# Altium footprint library ozge_er..PcbLib: 37 footprints (part 3 of 3)
Each footprint in its own frame and in the unit in brackets; x right, y up, seen from the top. Pads: shape width x height; smd on the part's side, far side on the other; paste and mask are expansions set on the pad; w line width, h text height; cw(c..) or ccw(c..) is an arc to the next point about the centre after c.
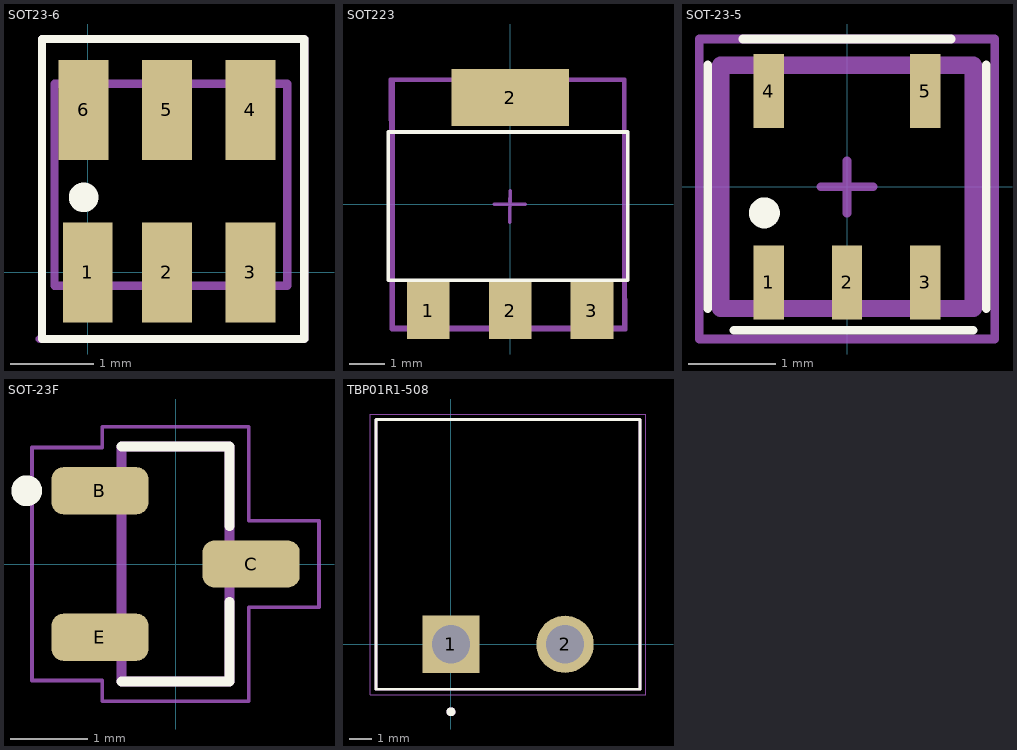
[diagram p2: the footprints below, top view; thin cyan lines are the x and y axes]

## SOT23-6 [mm] "diode"
pads (6):
  rect 0.6x1.2 smd: 1(0,0) 2(0.95,0) 3(1.95,0) 4(1.95,1.95) 5(0.95,1.95) 6(-0.05,1.95)
Top Overlay:
  circle w0.254: c-0.05,0.9 r0.05
  lines w0.1: -0.55,-0.8 -0.55,2.8 2.55,2.8 2.6,2.8 2.6,-0.8 -0.55,-0.8
Top 3D Body:
  lines w0.1: -0.4,-0.163 -0.4,2.263 2.394,2.263 2.394,-0.163 -0.4,-0.163
Top Component Center:
  lines w0.1: -0.575,-0.8 0.212,-0.8 1.787,-0.8 2.575,-0.8 ; -0.55,-0.75 -0.55,2.8 2.55,2.8 2.6,2.8 2.6,-0.75
Top Designator:
  lines w0.1: -0.55,-0.8 2.6,-0.8 2.6,2.8 -0.55,2.8 -0.55,-0.8
  text ".Designator" at -0.55,1 h1
3D body "User Library-SOT-23-6.step": height 1.09, standoff 0, extent -0.4,-0.163 2.394,2.263

## SOT223 [mm]
pads (4):
  rect 1.2x1.6 smd: 1(-2.305,-3) 2(0.005,-3) 3(2.305,-3)
  rect 3.3x1.6 smd: 2(0.005,3)
Top Overlay:
  lines w0.1: -3.435,-2.14 -3.435,2.03 3.175,2.03 3.315,2.03 3.315,-2.14 -3.435,-2.14
Top 3D Body:
  lines w0.1: -3.295,-3.47 -3.295,3.49 -1.67,3.49 1.58,3.49 3.205,3.49 3.205,-3.47 -3.295,-3.47
Top Component Center:
  lines w0.1: -0.44,-0.01 0.43,0 -0.005,0.005 -0.002,0.376 -0.01,-0.506 ; -3.344,-3.528 -3.344,3.51 3.22,3.51 3.232,3.51 3.232,-3.528 -3.344,-3.528
Top Designator:
  lines w0.1: -3.37,3.52 -3.34,-3.54 -1.69,-3.54 1.61,-3.54 3.26,-3.54 3.2,3.5 -3.37,3.52
  text ".Designator" at -3.15,0.07 h1.1
3D body "CircuitWorks-SOT-223.step": height 1.4, standoff -0.28, extent -3.295,-3.47 3.205,3.49

## SOT-23-5 [mm]
pads (5):
  rect 0.35x0.85 smd: 1(-0.9,-1.1) 2(0,-1.1) 3(0.9,-1.1) 4(-0.9,1.1) 5(0.9,1.1)
Top Overlay:
  circle w0.254: c-0.95,-0.3 r0.05
  lines w0.1: -1.6,-1.4 -1.6,1.4 ; -1.3,-1.65 1.45,-1.65 ; -1.2,1.7 1.2,1.7 ; 1.6,-1.4 1.6,1.4
Top 3D Body:
  lines w0.2: -1.45,-1.4 -1.45,1.4 1.45,1.4 1.45,-1.4 -1.45,-1.4
Top Component Center:
  lines w0.1: -0.3,0 0.3,0 ; 0,0 0,-0.3 0,0.3 ; -1.7,-1.75 -1.7,1.7 1.7,1.7 1.7,-1.55 1.7,-1.75 -1.7,-1.75
Top Designator:
  lines w0.1: -1.7,-1.75 1.7,-1.75 1.7,1.7 -1.7,1.7 -1.7,-1.75
  text ".Designator" at -1.45,-0.85 h1
3D body "OPA314AIDBVR.STEP": height 1.45, standoff 0, extent -1.45,-1.4 1.45,1.4

## SOT-23F [mm] "BJT"
pads (3):
  rrect50% 1.26x0.61 smd: B(-0.98,0.95) C(0.98,0) E(-0.98,-0.95)
Top Overlay:
  circle w0.2: c-1.93,0.95 r0.1
  lines w0.127: -0.7,-1.525 0.7,-1.525 0.7,-0.489 ; -0.7,1.525 0.7,1.525 0.7,0.489
Mechanical 13:
  lines w0.127: -0.7,-1.525 0.7,-1.525 0.7,1.525 -0.7,1.525 -0.7,-1.525
Mechanical 15:
  lines w0.05: -1.86,-1.51 -0.95,-1.51 -0.95,-1.78 0.95,-1.78 0.95,-0.56 1.86,-0.56 1.86,0.56 0.95,0.56 0.95,1.78 -0.95,1.78 -0.95,1.51 -1.86,1.51 -1.86,-1.51

## TBP01R1-508 [mm] "terminal block"
pads (2):
  rect 2.55x2.55 hole 1.7: 1(0,0)
  round 2.55 hole 1.7: 2(5.08,0)
Top Overlay:
  circle w0.2: c0,-3 r0.1
  lines w0.127: -3.34,-2 -3.34,10 8.42,10 8.42,-2 -3.34,-2
Mechanical 13:
  circle w0.2: c0,-3 r0.1
  lines w0.127: -3.34,-2 -3.34,10 8.42,10 8.42,-2 -3.34,-2
Mechanical 15:
  lines w0.05: -3.59,-2.25 8.67,-2.25 8.67,10.25 -3.59,10.25 -3.59,-2.25